# EAGLE library part POLOLU_MOTOR_ENC (library motor)
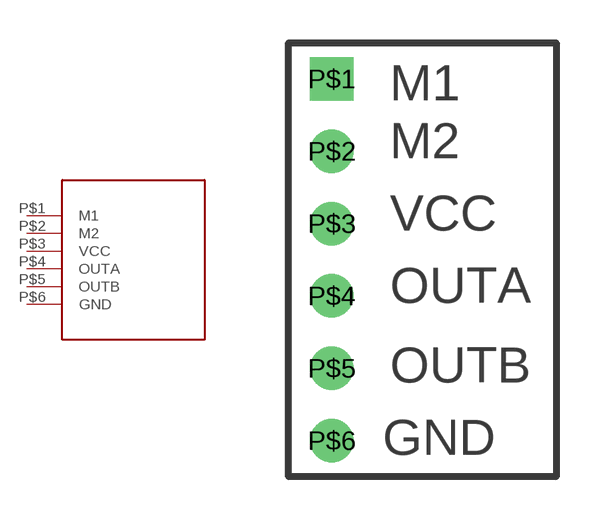
[diagram p0: symbol with the pads of POLOLU_MOTOR_ENC; footprint POLOLU_MOTOR_ENC]

Designator prefix -

## POLOLU_MOTOR_ENC  [POLOLU_MOTOR_ENC]
P$1  M1
P$2  M2
P$3  VCC
P$4  OUTA
P$5  OUTB
P$6  GND

## Footprint POLOLU_MOTOR_ENC (pad centres in mm)
drill 1.016 square: P$1 1.27,0
drill 1.016: P$2 1.27,-2.54; P$3 1.27,-5.08; P$4 1.27,-7.62; P$5 1.27,-10.16; P$6 1.27,-12.7